# Altium footprint library PCB1.PcbLib: 29 footprints (part 2 of 2)
Each footprint in its own frame and in the unit in brackets; x right, y up, seen from the top. Pads: shape width x height; smd on the part's side, far side on the other; paste and mask are expansions set on the pad; w line width, h text height; cw(c..) or ccw(c..) is an arc to the next point about the centre after c.
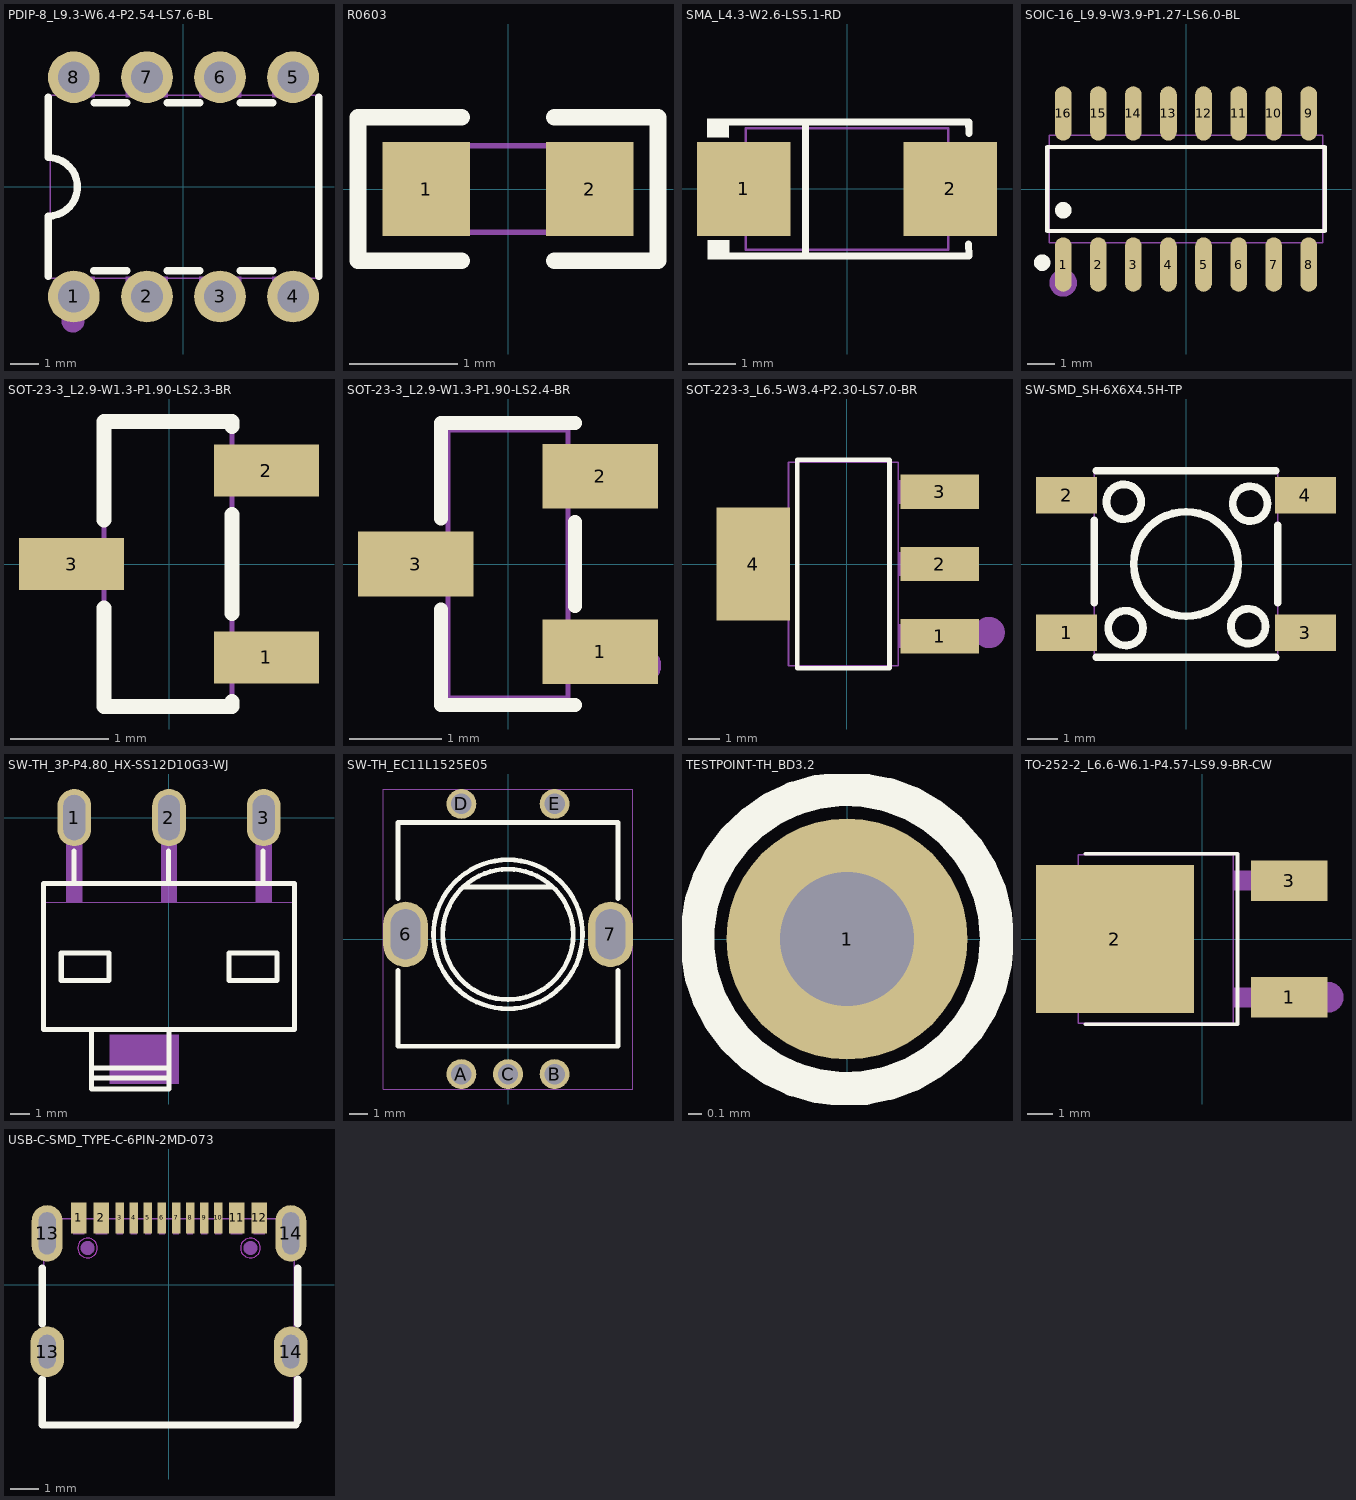
[diagram p1: the footprints below, top view; thin cyan lines are the x and y axes]

## PDIP-8_L9.3-W6.4-P2.54-LS7.6-BL [mm]
pads (8):
  round 1.8 hole 1.1: 1(-3.81,-3.81) 2(-1.27,-3.81) 3(1.27,-3.81) 4(3.81,-3.81) 5(3.81,3.81) 6(1.27,3.81) 7(-1.27,3.81) 8(-3.81,3.81)
Top Overlay:
  lines w0.254: -4.7,-3.113 -4.7,-1.015 ccw(c-4.7,0.001) -4.7,1.017 -4.7,3.113 ; -3.113,-2.92 -1.967,-2.92 ; -3.111,2.922 -1.969,2.922 ; -0.573,-2.92 0.573,-2.92 ; -0.571,2.922 0.571,2.922 ; 1.967,-2.92 3.113,-2.92 ; 1.969,2.922 3.111,2.922 ; 4.7,-3.113 4.7,3.113
Mechanical 6:
  circle w0.4: c-3.84,-4.66 r0.2
Mechanical 15:
  region: -4.035,-3.683 -3.585,-3.683 -3.585,-3.937 -4.035,-3.937
  region: -1.495,-3.683 -1.045,-3.683 -1.045,-3.937 -1.495,-3.937
  region: 1.045,-3.683 1.495,-3.683 1.495,-3.937 1.045,-3.937
  region: 3.585,-3.683 4.035,-3.683 4.035,-3.937 3.585,-3.937
  region: 3.585,3.937 4.035,3.937 4.035,3.683 3.585,3.683
  region: 1.045,3.937 1.495,3.937 1.495,3.683 1.045,3.683
  region: -1.495,3.937 -1.045,3.937 -1.045,3.683 -1.495,3.683
  region: -4.035,3.937 -3.585,3.937 -3.585,3.683 -4.035,3.683
  region: 4.07,3.935 4.07,3.12 3.08,3.12 3.08,3.935
  region: -3.08,3.935 -3.08,3.12 -4.07,3.12 -4.07,3.935
  region: -4.07,-3.935 -4.07,-3.12 -3.08,-3.12 -3.08,-3.935
  region: 2,3.935 2,3.12 0.54,3.12 0.54,3.935
  region: -0.54,3.935 -0.54,3.12 -2,3.12 -2,3.935
  region: -2,-3.935 -2,-3.12 -0.54,-3.12 -0.54,-3.935
  region: 3.08,-3.935 3.08,-3.12 4.07,-3.12 4.07,-3.935
  region: 0.54,-3.935 0.54,-3.12 2,-3.12 2,-3.935
  lines w0.051: -4.635,-3.175 -4.635,3.175 4.635,3.175 4.635,-3.175 -4.635,-3.175

## R0603 [mm]
pads (2):
  rect 0.806x0.864 smd paste-100 mask+0.051: 1(-0.753,0) 2(0.753,0)
Top Overlay:
  lines w0.152: -0.426,-0.661 -1.385,-0.661 -1.385,0.661 -0.426,0.661 ; 0.426,-0.661 1.385,-0.661 1.385,0.661 0.426,0.661
Top Paste:
  region: -1.195,-0.45 -0.395,-0.45 -0.345,-0.4 -0.345,-0.172 -0.715,-0.172 -0.715,0.158 -0.345,0.158 -0.345,0.4 -0.395,0.45 -1.195,0.45 -1.245,0.4 -1.245,-0.4
  region: 1.195,0.45 0.395,0.45 0.345,0.4 0.345,0.172 0.715,0.172 0.715,-0.158 0.345,-0.158 0.345,-0.4 0.395,-0.45 1.195,-0.45 1.245,-0.4 1.245,0.4
Mechanical 15:
  region: 0.8,-0.4 0.8,0.4 0.5,0.4 0.5,-0.4
  region: -0.8,-0.4 -0.8,0.4 -0.5,0.4 -0.5,-0.4
  lines w0.051: -0.8,-0.4 0.8,-0.4 0.8,0.4 -0.8,0.4 -0.8,-0.4

## SMA_L4.3-W2.6-LS5.1-RD [mm]
pads (2):
  rect 2x2 smd: 1(-2.2,0) 2(2.2,0)
Top Overlay:
  region: -2.52,1.502 -2.521,1.096 -2.981,1.1 -2.977,1.502
  region: -2.512,-1.096 -2.513,-1.503 -2.973,-1.498 -2.969,-1.096
  lines w0.152: -2.596,-1.426 2.596,-1.426 ; -2.596,1.426 2.596,1.426 2.603,1.187 ; -0.884,-1.426 -0.884,1.426 ; 2.593,-1.176 2.6,-1.415
Mechanical 6:
  region: -2.317,-0.101 -2.317,0.101 -1.507,0.101 -1.507,-0.101
  region: 2.317,-0.101 2.317,0.101 1.507,0.101 1.507,-0.101
  region: 2.014,-0.675 2.014,0.675 1.811,0.675 1.811,-0.675
Mechanical 15:
  region: 2.56,0.725 2.56,-0.725 1.435,-0.725 1.435,0.725
  region: -1.435,0.725 -1.435,-0.725 -2.56,-0.725 -2.56,0.725
  lines w0.051: -2.16,-1.3 2.16,-1.3 2.16,1.3 -2.16,1.3 -2.16,-1.3

## SOIC-16_L9.9-W3.9-P1.27-LS6.0-BL [mm]
pads (16):
  oval 0.602x1.971 smd: 1(-4.445,-2.736) 2(-3.175,-2.736) 3(-1.905,-2.736) 4(-0.635,-2.736) 5(0.635,-2.736) 6(1.905,-2.736) 7(3.175,-2.736) 8(4.445,-2.736) 9(4.445,2.736) 10(3.175,2.736) 11(1.905,2.736) 12(0.635,2.736) 13(-0.635,2.736) 14(-1.905,2.736) 15(-3.175,2.736) 16(-4.445,2.736)
Top Overlay:
  circle w0.3: c-5.207,-2.667 r0.15
  circle w0.3: c-4.445,-0.769 r0.15
  lines w0.152: -5.026,-1.521 5.026,-1.521 5.026,1.521 -5.026,1.521 -5.026,-1.521
Mechanical 6:
  circle w0.5: c-4.445,-3.4 r0.25
Mechanical 15:
  drawing of 36 lines, arcs and shapes, not listed

## SOT-23-3_L2.9-W1.3-P1.90-LS2.3-BR [mm]
pads (3):
  rect 1.07x0.532 smd: 1(0.99,-0.95) 2(0.99,0.95) 3(-0.99,0)
Top Overlay:
  lines w0.152: -0.66,-0.446 -0.66,-1.45 0.64,-1.45 0.64,-1.396 ; -0.66,0.446 -0.66,1.45 0.64,1.45 0.64,1.396 ; 0.64,-0.504 0.64,0.504
Mechanical 6:
  circle w0.2: c1.13,-1 r0.1
Mechanical 15:
  region: 0.73,0.75 0.73,1.15 0.6,1.15 0.6,0.75
  region: 0.73,-1.15 0.73,-0.75 0.6,-0.75 0.6,-1.15
  region: -0.73,0.2 -0.73,-0.2 -0.6,-0.2 -0.6,0.2
  region: 0.69,-1.15 0.69,-0.75 1.14,-0.75 1.14,-1.15
  region: 0.69,0.75 0.69,1.15 1.14,1.15 1.14,0.75
  region: -0.71,-0.2 -0.71,0.2 -1.16,0.2 -1.16,-0.2
  lines w0.051: -0.66,-1.45 -0.66,1.45 0.64,1.45 0.64,-1.45 -0.66,-1.45

## SOT-23-3_L2.9-W1.3-P1.90-LS2.4-BR [mm]
pads (3):
  rect 1.25x0.7 smd: 1(1,-0.95) 2(1,0.95) 3(-1,0)
Top Overlay:
  lines w0.152: -0.726,-0.495 -0.726,-1.526 0.726,-1.526 ; -0.726,0.495 -0.726,1.526 0.726,1.526 ; 0.726,-0.455 0.726,0.455
Mechanical 6:
  circle w0.2: c1.46,-1.1 r0.1
Mechanical 15:
  region: -1.2,-0.215 -1.2,0.215 -0.9,0.215 -0.9,-0.215
  region: -0.91,-0.215 -0.91,0.215 -0.64,0.215 -0.64,-0.215
  region: 0.9,-1.165 0.9,-0.735 1.2,-0.735 1.2,-1.165
  region: 0.64,-1.165 0.64,-0.735 0.91,-0.735 0.91,-1.165
  region: 0.9,0.735 0.9,1.165 1.2,1.165 1.2,0.735
  region: 0.64,0.735 0.64,1.165 0.91,1.165 0.91,0.735
  lines w0.051: -0.65,-1.45 0.65,-1.45 0.65,1.45 -0.65,1.45 -0.65,-1.45

## SOT-223-3_L6.5-W3.4-P2.30-LS7.0-BR [mm]
pads (4):
  rect 2.5x1.1 smd: 1(2.97,-2.3) 2(2.97,0) 3(2.97,2.3)
  rect 2.34x3.6 smd: 4(-2.97,0)
Top Overlay:
  lines w0.152: -1.571,-3.326 1.371,-3.326 1.371,3.326 -1.571,3.326 -1.571,-3.326
Mechanical 6:
  circle w0.5: c4.552,-2.188 r0.25
Mechanical 15:
  region: -3.6,-1.5 -3.6,1.5 -2.85,1.5 -2.85,-1.5
  region: -2.86,-1.5 -2.86,1.5 -1.84,1.5 -1.84,-1.5
  region: 2.65,-2.675 2.65,-1.925 3.4,-1.925 3.4,-2.675
  region: 1.64,-2.675 1.64,-1.925 2.66,-1.925 2.66,-2.675
  region: 2.65,-0.375 2.65,0.375 3.4,0.375 3.4,-0.375
  region: 1.64,-0.375 1.64,0.375 2.66,0.375 2.66,-0.375
  region: 2.65,1.925 2.65,2.675 3.4,2.675 3.4,1.925
  region: 1.64,1.925 1.64,2.675 2.66,2.675 2.66,1.925
  lines w0.051: -1.85,-3.25 1.65,-3.25 1.65,3.25 -1.85,3.25 -1.85,-3.25

## SW-SMD_SH-6X6X4.5H-TP [mm]
pads (4):
  rect 2x1.2 smd paste+0 mask+0.05: 1(-3.9,-2.25) 2(-3.9,2.25) 3(3.9,-2.25) 4(3.9,2.25)
Top Overlay:
  circle w0.254: c0,0 r1.709
  circle w0.254: c-2.032,2.032 r0.568
  circle w0.254: c-1.971,-2.093 r0.568
  circle w0.254: c2.093,1.971 r0.568
  circle w0.254: c2.032,-2.032 r0.568
  lines w0.254: -3,-1.269 -3,1.269 -3,1.419 ; -2.921,-3.048 2.921,-3.048 ; -2.921,3.048 2.921,3.048 ; 3,-1.269 3,1.269
Mechanical 15:
  region: -4.4,2.6 -3.9,2.6 -3.9,1.9 -4.4,1.9
  region: -4.4,-1.9 -3.9,-1.9 -3.9,-2.6 -4.4,-2.6
  region: 3.9,-1.9 4.4,-1.9 4.4,-2.6 3.9,-2.6
  region: 3.9,2.6 4.4,2.6 4.4,1.9 3.9,1.9
  region: 4.4,1.9 4.4,2.6 2.95,2.6 2.95,1.9
  region: 4.4,-2.6 4.4,-1.9 2.951,-1.9 2.951,-2.6
  region: -4.4,2.6 -4.4,1.9 -2.95,1.9 -2.95,2.6
  region: -4.4,-1.9 -4.4,-2.6 -2.95,-2.6 -2.95,-1.9
  lines w0.051: -3,-3 -3,3 3,3 3,-3 -3,-3

## SW-TH_3P-P4.80_HX-SS12D10G3-WJ [mm]
pads (3):
  oval 1.7x2.9 hole 1.1 slot 2.3 at 90 deg paste+0 mask+0.05: 1(-4.8,0) 2(0,0) 3(4.8,0)
Top Overlay:
  lines w0.254: -6.35,-3.35 6.35,-3.35 ; -6.35,-3.344 -6.35,-10.75 6.35,-10.75 6.35,-3.395 ; -4.826,-3.175 -4.826,-1.681 ; -3.937,-13.754 0,-13.754 ; -3.937,-13.75 -3.937,-10.75 ; -3.937,-13.208 0,-13.208 ; -3.937,-12.7 0,-12.7 ; -0.026,-3.175 -0.026,-1.681 ; 0,-13.75 0,-10.75 ; 4.774,-3.175 4.774,-1.681 ; -5.461,-8.255 -3.048,-8.255 -3.048,-6.858 -5.461,-6.858 -5.461,-8.255 ; 3.048,-8.255 5.461,-8.255 5.461,-6.858 3.048,-6.858 3.048,-8.255
Mechanical 6:
  region: -3,-11 -3,-13.5 0.5,-13.5 0.5,-11
Mechanical 15:
  region: 4.4,0.65 5.2,0.65 5.2,-0.65 4.4,-0.65
  region: -0.4,0.65 0.4,0.65 0.4,-0.65 -0.4,-0.65
  region: -5.2,0.65 -4.4,0.65 -4.4,-0.65 -5.2,-0.65
  region: -5.2,0.65 -4.4,0.65 -4.4,-4.31 -5.2,-4.31
  region: -0.4,0.65 0.4,0.65 0.4,-4.31 -0.4,-4.31
  region: 4.4,0.65 5.2,0.65 5.2,-4.31 4.4,-4.31
  lines w0.051: -6.35,-10.7 -6.35,-4.3 6.35,-4.3 6.35,-10.7 -6.35,-10.7

## SW-TH_EC11L1525E05 [mm]
pads (7):
  oval 2.4x3.5 hole 1.6 slot 2.7 at 90 deg: 6(-5.5,0.25) 7(5.5,0.25)
  round 1.6 hole 1.1: A(-2.5,-7.25) B(2.5,-7.25) C(0,-7.25) D(-2.5,7.25) E(2.5,7.25)
Top Overlay:
  circle w0.254: c0,0.25 r4
  circle w0.254: c0,0.25 r3.5
  lines w0.254: -5.9,-5.75 5.9,-5.75 5.9,-1.674 ; -5.9,-5.68 -5.9,-1.674 ; -5.9,2.174 -5.9,6.25 5.9,6.25 5.9,2.174 ; -2.41,2.79 2.32,2.79
Mechanical 15:
  region: -4.86,0.8 -4.86,-0.3 -6.14,-0.3 -6.14,0.8
  region: 4.86,-0.3 4.86,0.8 6.14,0.8 6.14,-0.3
  lines w0.051: -6.7,-8.05 6.7,-8.05 6.7,8.05 -6.7,8.05 -6.7,-8.05

## TESTPOINT-TH_BD3.2 [mm]
pads (1):
  round 1.8 hole 1 paste+0 mask+0.05: 1(0,0)
Top Overlay:
  circle w0.254: c0,0 r1.12

## TO-252-2_L6.6-W6.1-P4.57-LS9.9-BR-CW [mm]
pads (3):
  rect 3x1.6 smd: 1(3.424,-2.29) 3(3.424,2.29)
  rect 6.2x5.8 smd: 2(-3.424,0)
Top Overlay:
  lines w0.152: -4.585,-3.346 1.383,-3.346 1.383,3.346 -4.585,3.346
Mechanical 6:
  circle w0.6: c4.953,-2.286 r0.3
Mechanical 15:
  region: -4.954,2.505 -0.938,2.505 -0.938,-2.505 -4.954,-2.505 -5.954,-1.505 -5.954,1.505
  region: 2.371,1.91 2.371,2.67 3.961,2.67 3.961,1.91
  region: 1.211,1.91 1.211,2.67 2.381,2.67 2.381,1.91
  region: 2.371,-2.67 2.371,-1.91 3.961,-1.91 3.961,-2.67
  region: 1.211,-2.67 1.211,-1.91 2.381,-1.91 2.381,-2.67
  lines w0.051: -4.874,-3.3 -4.874,3.3 1.221,3.3 1.221,-3.3 -4.874,-3.3

## USB-C-SMD_TYPE-C-6PIN-2MD-073 [mm]
pads (16):
  rect 0.55x1.1 smd paste-100 mask+0.05: 1(-3.2,2.375) 2(-2.4,2.375) 11(2.4,2.375) 12(3.2,2.375)
  rect 0.3x1.1 smd paste-100 mask+0.05: 3(-1.75,2.375) 4(-1.25,2.375) 5(-0.75,2.375) 6(-0.25,2.375) 7(0.25,2.375) 8(0.75,2.375) 9(1.25,2.375) 10(1.75,2.375)
  oval 1.2x1.8 hole 0.6 slot 1.2 at 90 deg paste+0 mask+0.05: 13(-4.325,-2.375) 14(4.325,-2.375)
  oval 1.1x2 hole 0.6 slot 1.5 at 90 deg paste+0 mask+0.05: 13(-4.325,1.825) 14(4.325,1.825)
Top Overlay:
  lines w0.254: -4.5,-3.356 -4.5,-4.975 4.5,-4.975 ; -4.5,-1.394 -4.5,0.594 ; 4.572,-4.826 4.572,-3.353 ; 4.572,-1.397 4.572,0.597
Top Paste:
  drawing of 16 lines, arcs and shapes, not listed
Keep-Out Layer:
  circle w0.005: c2.89,1.305 r0.35
  circle w0.005: c-2.89,1.305 r0.35
Mechanical 1:
  circle w0.005: c2.89,1.305 r0.35
  circle w0.005: c-2.89,1.305 r0.35
Mechanical 6:
  circle w0.25: c2.89,1.305 r0.125
  circle w0.25: c-2.89,1.305 r0.125
Mechanical 15:
  region: 4.2,-2.025 4.45,-2.025 4.45,-2.725 4.2,-2.725
  region: -4.45,-2.025 -4.2,-2.025 -4.2,-2.725 -4.45,-2.725
  region: 4.2,2.349 4.45,2.349 4.45,1.249 4.2,1.249
  region: -4.45,2.349 -4.2,2.349 -4.2,1.249 -4.45,1.249
  region: 3,2.649 3.4,2.649 3.4,1.799 3,1.799
  region: 2.2,2.649 2.6,2.649 2.6,1.799 2.2,1.799
  region: -2.6,2.649 -2.2,2.649 -2.2,1.799 -2.6,1.799
  region: -3.4,2.649 -3,2.649 -3,1.799 -3.4,1.799
  region: 1.65,2.649 1.85,2.649 1.85,1.799 1.65,1.799
  region: 1.15,2.649 1.35,2.649 1.35,1.799 1.15,1.799
  region: 0.65,2.649 0.85,2.649 0.85,1.799 0.65,1.799
  region: 0.15,2.649 0.35,2.649 0.35,1.799 0.15,1.799
  region: -0.35,2.649 -0.15,2.649 -0.15,1.799 -0.35,1.799
  region: -1.35,2.649 -1.15,2.649 -1.15,1.799 -1.35,1.799
  region: -0.85,2.649 -0.65,2.649 -0.65,1.799 -0.85,1.799
  region: -1.85,2.649 -1.65,2.649 -1.65,1.799 -1.85,1.799
  lines w0.051: -4.45,-5.001 4.45,-5.001 4.45,2.349 -4.45,2.349 -4.45,-5.001